# EAGLE library part M701-330442 (library Common-Parts-Library-Eagle)
Series: M701; No. of Contacts: 4; Contact Termination: Through Hole Vertical; Connector Mounting: PCB
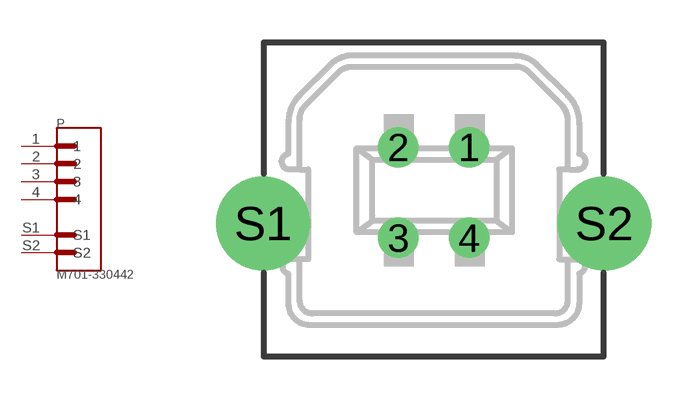
[diagram p7: symbol with the pads of HARWIN_M701-330442; footprint HARWIN_M701-330442]

Designator prefix P

## M701-330442 (MANUFACTURER: Harwin Inc)  [HARWIN_M701-330442]
1  1  pas
2  2  pas
3  3  pas
4  4  pas
S1  S1  pas
S2  S2  pas

## Footprint HARWIN_M701-330442 (pad centres in mm)
drill 0.9 pad 1.422: 1 1.25,1.43; 2 -1.25,1.43; 3 -1.25,-1.77; 4 1.25,-1.77
drill 2.3 pad 2.7: S1 -6.02,-1.27; S2 6.02,-1.27